# EAGLE library part EPCS (library ICs)
Altera FPGA serial programming device.
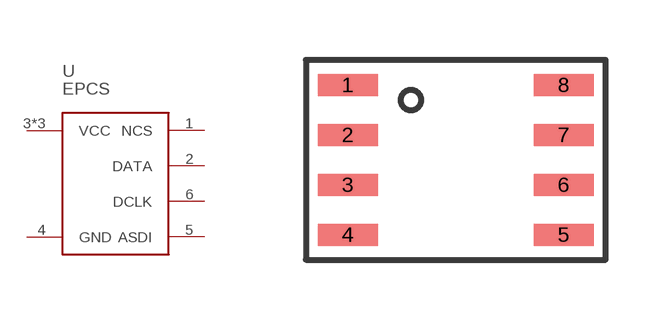
[diagram p33: symbol with the pads of SO8; footprint SO8]

Designator prefix U

## EPCS1SI8N (FARNELL: 1453504), EPCS16SI8N (FARNELL: 1453463), EPCS4SI8N (FARNELL: 1453496), EPCS64SI8N  [SO8]
1  NCS
2  DATA
3  VCC
4  GND
5  ASDI
6  DCLK
7  VCC
8  VCC

## Footprint SO8 (pad centres in mm)
smd 1.5 x 0.55: 1 -2.7,1.875; 2 -2.7,0.625; 3 -2.7,-0.625; 4 -2.7,-1.875; 5 2.7,-1.875; 6 2.7,-0.625; 7 2.7,0.625; 8 2.7,1.875